# EAGLE library part FDC6330L (library mille-feuille)
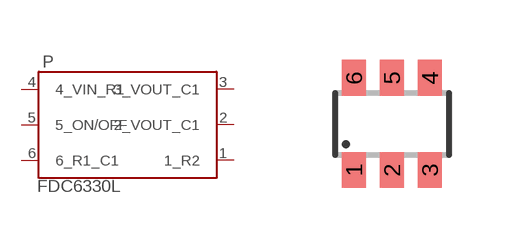
[diagram p18: symbol with the pads of SOT23-6; footprint SOT23-6]

Designator prefix P

## FDC6330L  [SOT23-6]
1  1_R2
2  2_VOUT_C1
3  3_VOUT_C1
4  4_VIN_R1
5  5_ON/OFF
6  6_R1_C1

## Footprint SOT23-6 (pad centres in mm)
smd 0.6 x 0.9: 1 -0.95,-1.15; 2 0,-1.15; 3 0.95,-1.15; 4 0.95,1.15; 5 0,1.15; 6 -0.95,1.15